# EAGLE library part 16X2 (library pixel)
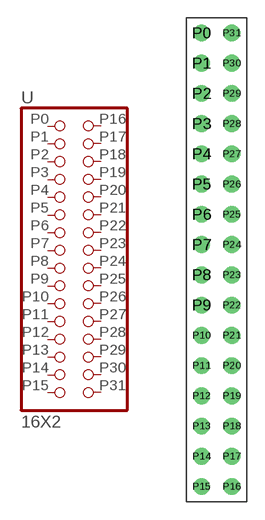
[diagram p15: symbol with the pads of 16X2; footprint 16X2]

Designator prefix -

## 16X2  [16X2]
P0  P0  pas
P1  P1  pas
P2  P2  pas
P3  P3  pas
P4  P4  pas
P5  P5  pas
P6  P6  pas
P7  P7  pas
P8  P8  pas
P9  P9  pas
P10  P10  pas
P11  P11  pas
P12  P12  pas
P13  P13  pas
P14  P14  pas
P15  P15  pas
P16  P16  pas
P17  P17  pas
P18  P18  pas
P19  P19  pas
P20  P20  pas
P21  P21  pas
P22  P22  pas
P23  P23  pas
P24  P24  pas
P25  P25  pas
P26  P26  pas
P27  P27  pas
P28  P28  pas
P29  P29  pas
P30  P30  pas
P31  P31  pas

## Footprint 16X2 (pad centres in mm)
drill 0.9 pad 1.27: P0 -1.27,19.05; P1 -1.27,16.51; P2 -1.27,13.97; P3 -1.27,11.43; P4 -1.27,8.89; P5 -1.27,6.35; P6 -1.27,3.81; P7 -1.27,1.27; P8 -1.27,-1.27; P9 -1.27,-3.81; P10 -1.27,-6.35; P11 -1.27,-8.89; P12 -1.27,-11.43; P13 -1.27,-13.97; P14 -1.27,-16.51; P15 -1.27,-19.05; P16 1.27,-19.05; P17 1.27,-16.51; P18 1.27,-13.97; P19 1.27,-11.43; P20 1.27,-8.89; P21 1.27,-6.35; P22 1.27,-3.81; P23 1.27,-1.27; P24 1.27,1.27; P25 1.27,3.81; P26 1.27,6.35; P27 1.27,8.89; P28 1.27,11.43; P29 1.27,13.97; P30 1.27,16.51; P31 1.27,19.05